# Altium footprint library WR-MM.PcbLib: 120 footprints (part 5 of 8)
Each footprint in its own frame and in the unit in brackets; x right, y up, seen from the top. Pads: shape width x height; smd on the part's side, far side on the other; paste and mask are expansions set on the pad; w line width, h text height; cw(c..) or ccw(c..) is an arc to the next point about the centre after c.
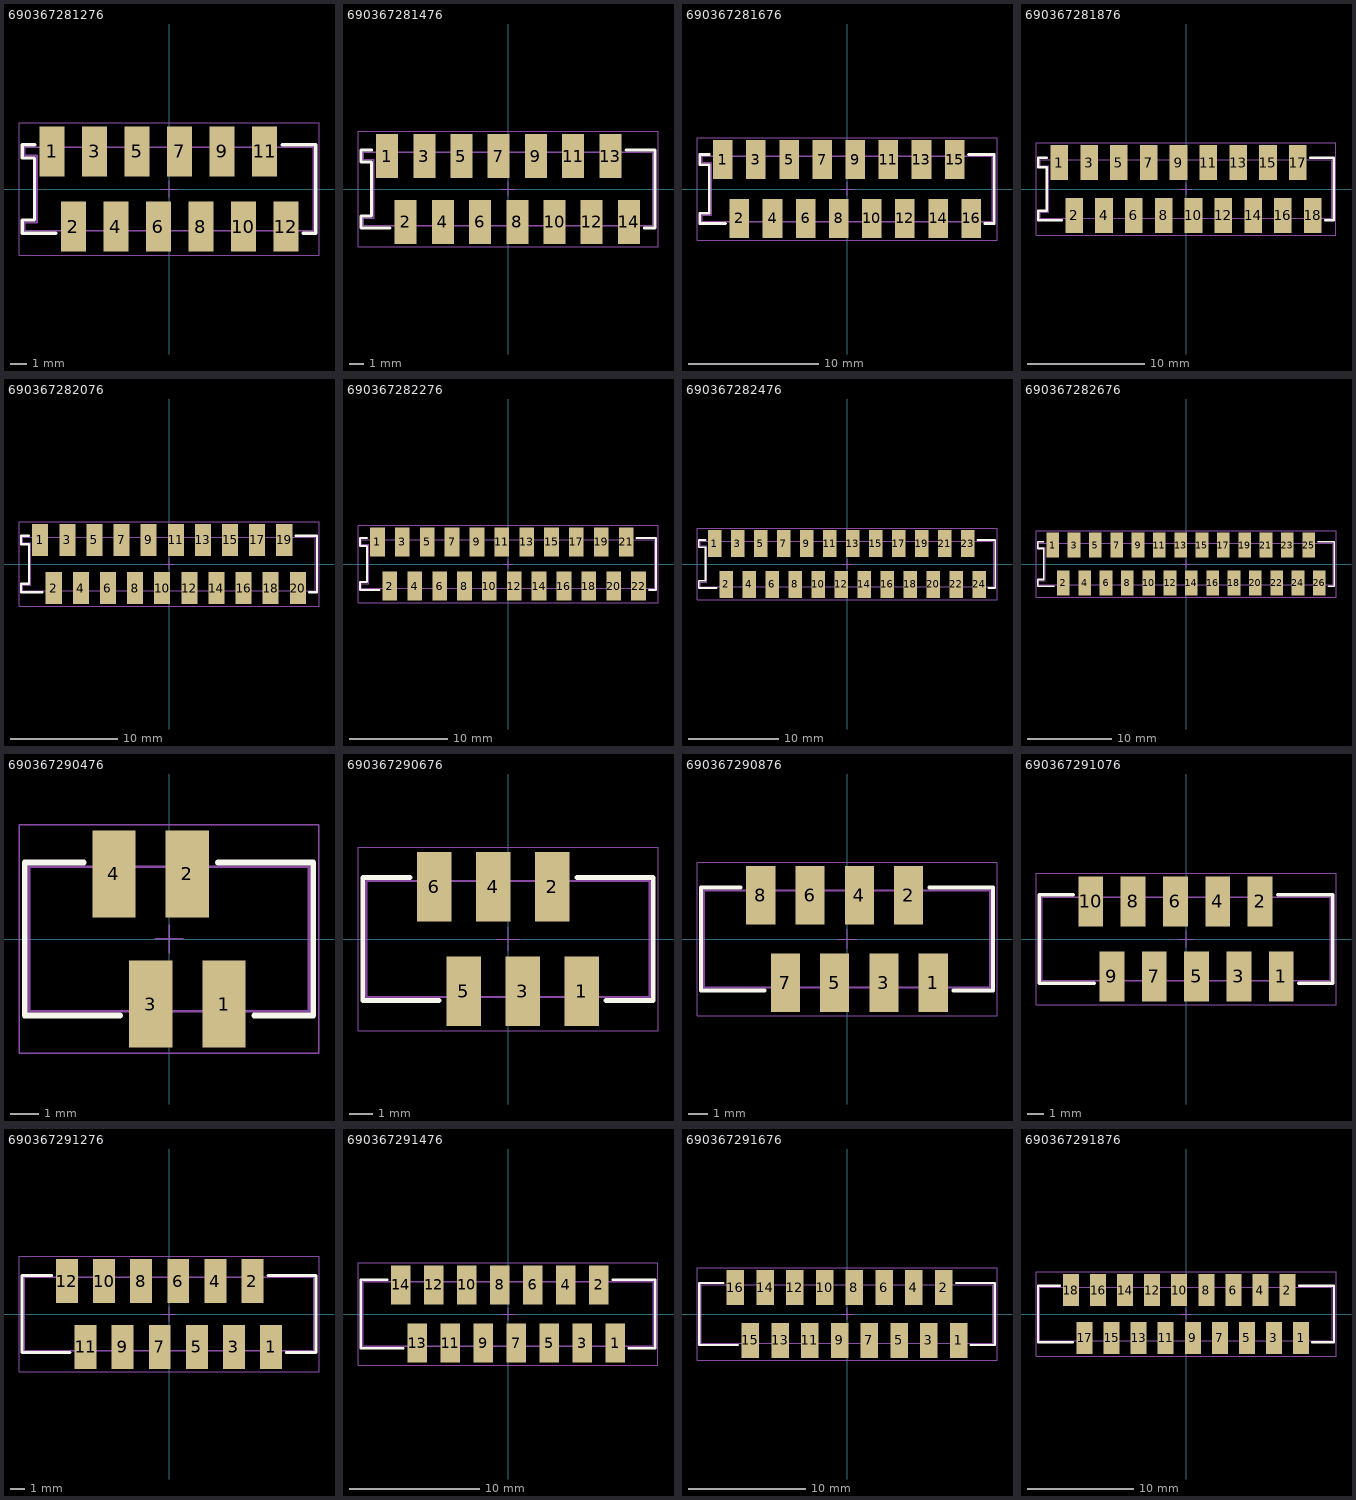
[diagram p4: the footprints below, top view; thin cyan lines are the x and y axes]

## 690367281276 [mm] "MiniModule Connectors, PCB Type, Female, SMT, Vertical, 12p"
height 5.45
pads (12):
  rect 1.5x3 smd: 1(-6.985,2.25) 2(-5.715,-2.25) 3(-4.445,2.25) 4(-3.175,-2.25) 5(-1.905,2.25) 6(-0.635,-2.25) 7(0.635,2.25) 8(1.905,-2.25) 9(3.175,2.25) 10(4.445,-2.25) 11(5.715,2.25) 12(6.985,-2.25)
Top Overlay:
  lines w0.2: -8.03,2.65 -8.77,2.65 -8.77,1.85 -8.04,1.85 -8.04,-1.85 -8.77,-1.85 -8.77,-2.65 -6.78,-2.65 ; 6.78,2.65 8.77,2.65 8.77,-2.65 8.03,-2.65
Top Designator:
  text ".Designator" at -7.498,-0.5 h1.5
Top Component Outline:
  lines w0.1: -7.11,2.5 -7.11,3.5 -6.86,3.5 -6.86,2.5 ; -5.84,-2.5 -5.84,-3.5 -5.59,-3.5 -5.59,-2.5 ; -4.57,2.5 -4.57,3.5 -4.32,3.5 -4.32,2.5 ; -3.3,-2.5 -3.3,-3.5 -3.05,-3.5 -3.05,-2.5 ; -2.03,2.5 -2.03,3.5 -1.78,3.5 -1.78,2.5 ; -0.76,-2.5 -0.76,-3.5 -0.51,-3.5 -0.51,-2.5 ; 0.51,2.5 0.51,3.5 0.76,3.5 0.76,2.5 ; 1.78,-2.5 1.78,-3.5 2.03,-3.5 2.03,-2.5 ; 3.05,2.5 3.05,3.5 3.3,3.5 3.3,2.5 ; 4.32,-2.5 4.32,-3.5 4.57,-3.5 4.57,-2.5 ; 5.59,2.5 5.59,3.5 5.84,3.5 5.84,2.5 ; 6.86,-2.5 6.86,-3.5 7.11,-3.5 7.11,-2.5 ; -8.62,-2.5 -8.62,-2 -7.89,-2 -7.89,2 -8.62,2 -8.62,2.5 8.62,2.5 8.62,-2.5 -8.62,-2.5
Top 3D Body:
  lines w0.1: -7.11,2.5 -7.11,3.5 -6.86,3.5 -6.86,2.5 ; -5.84,-2.5 -5.84,-3.5 -5.59,-3.5 -5.59,-2.5 ; -4.57,2.5 -4.57,3.5 -4.32,3.5 -4.32,2.5 ; -3.3,-2.5 -3.3,-3.5 -3.05,-3.5 -3.05,-2.5 ; -2.03,2.5 -2.03,3.5 -1.78,3.5 -1.78,2.5 ; -0.76,-2.5 -0.76,-3.5 -0.51,-3.5 -0.51,-2.5 ; 0.51,2.5 0.51,3.5 0.76,3.5 0.76,2.5 ; 1.78,-2.5 1.78,-3.5 2.03,-3.5 2.03,-2.5 ; 3.05,2.5 3.05,3.5 3.3,3.5 3.3,2.5 ; 4.32,-2.5 4.32,-3.5 4.57,-3.5 4.57,-2.5 ; 5.59,2.5 5.59,3.5 5.84,3.5 5.84,2.5 ; 6.86,-2.5 6.86,-3.5 7.11,-3.5 7.11,-2.5 ; -8.62,-2.5 8.62,-2.5 8.62,2.5 -8.62,2.5 -8.62,2 -7.89,2 -7.89,-2 -8.62,-2 -8.62,-2.5
Top Courtyard:
  lines w0.05: -0.5,0 0.5,0 ; 0,-0.5 0,0.5 ; -8.97,-3.95 -8.97,3.95 8.97,3.95 8.97,-3.95 -8.97,-3.95
3D body "690367281276.stp": height 5.8, standoff 0, extent -8.615,-3.498 8.625,3.499

## 690367281476 [mm] "MiniModule Connectors, PCB Type, Female, SMT, Vertical, 14p"
height 5.45
pads (14):
  rect 1.5x3 smd: 1(-8.255,2.25) 2(-6.985,-2.25) 3(-5.715,2.25) 4(-4.445,-2.25) 5(-3.175,2.25) 6(-1.905,-2.25) 7(-0.635,2.25) 8(0.635,-2.25) 9(1.905,2.25) 10(3.175,-2.25) 11(4.445,2.25) 12(5.715,-2.25) 13(6.985,2.25) 14(8.255,-2.25)
Top Overlay:
  lines w0.2: -9.3,2.65 -10.04,2.65 -10.04,1.85 -9.31,1.85 -9.31,-1.85 -10.04,-1.85 -10.04,-2.65 -8.05,-2.65 ; 8.05,2.65 10.04,2.65 10.04,-2.65 9.3,-2.65
Top Designator:
  text ".Designator" at -7.498,-0.5 h1.5
Top Component Outline:
  lines w0.1: -8.38,2.5 -8.38,3.5 -8.13,3.5 -8.13,2.5 ; -7.11,-2.5 -7.11,-3.5 -6.86,-3.5 -6.86,-2.5 ; -5.84,2.5 -5.84,3.5 -5.59,3.5 -5.59,2.5 ; -4.57,-2.5 -4.57,-3.5 -4.32,-3.5 -4.32,-2.5 ; -3.3,2.5 -3.3,3.5 -3.05,3.5 -3.05,2.5 ; -2.03,-2.5 -2.03,-3.5 -1.78,-3.5 -1.78,-2.5 ; -0.76,2.5 -0.76,3.5 -0.51,3.5 -0.51,2.5 ; 0.51,-2.5 0.51,-3.5 0.76,-3.5 0.76,-2.5 ; 1.78,2.5 1.78,3.5 2.03,3.5 2.03,2.5 ; 3.05,-2.5 3.05,-3.5 3.3,-3.5 3.3,-2.5 ; 4.32,2.5 4.32,3.5 4.57,3.5 4.57,2.5 ; 5.59,-2.5 5.59,-3.5 5.84,-3.5 5.84,-2.5 ; 6.86,2.5 6.86,3.5 7.11,3.5 7.11,2.5 ; 8.13,-2.5 8.13,-3.5 8.38,-3.5 8.38,-2.5 ; -9.89,-2.5 9.89,-2.5 9.89,2.5 -9.89,2.5 -9.89,2 -9.16,2 -9.16,-2 -9.89,-2 -9.89,-2.5
Top 3D Body:
  lines w0.1: -8.38,2.5 -8.38,3.5 -8.13,3.5 -8.13,2.5 ; -7.11,-2.5 -7.11,-3.5 -6.86,-3.5 -6.86,-2.5 ; -5.84,2.5 -5.84,3.5 -5.59,3.5 -5.59,2.5 ; -4.57,-2.5 -4.57,-3.5 -4.32,-3.5 -4.32,-2.5 ; -3.3,2.5 -3.3,3.5 -3.05,3.5 -3.05,2.5 ; -2.03,-2.5 -2.03,-3.5 -1.78,-3.5 -1.78,-2.5 ; -0.76,2.5 -0.76,3.5 -0.51,3.5 -0.51,2.5 ; 0.51,-2.5 0.51,-3.5 0.76,-3.5 0.76,-2.5 ; 1.78,2.5 1.78,3.5 2.03,3.5 2.03,2.5 ; 3.05,-2.5 3.05,-3.5 3.3,-3.5 3.3,-2.5 ; 4.32,2.5 4.32,3.5 4.57,3.5 4.57,2.5 ; 5.59,-2.5 5.59,-3.5 5.84,-3.5 5.84,-2.5 ; 6.86,2.5 6.86,3.5 7.11,3.5 7.11,2.5 ; 8.13,-2.5 8.13,-3.5 8.38,-3.5 8.38,-2.5 ; -9.89,-2.5 -9.89,-2 -9.16,-2 -9.16,2 -9.89,2 -9.89,2.5 9.89,2.5 9.89,-2.5 -9.89,-2.5
Top Courtyard:
  lines w0.05: -0.5,0 0.5,0 ; 0,-0.5 0,0.5 ; -10.24,-3.95 10.24,-3.95 10.24,3.95 -10.24,3.95 -10.24,-3.95
3D body "690367281476.stp": height 5.8, standoff 0.05, extent -9.885,-3.498 9.895,3.499

## 690367281676 [mm] "MiniModule Connectors, PCB Type, Female, SMT, Vertical, 16p"
height 5.45
pads (16):
  rect 1.5x3 smd: 1(-9.525,2.25) 2(-8.255,-2.25) 3(-6.985,2.25) 4(-5.715,-2.25) 5(-4.445,2.25) 6(-3.175,-2.25) 7(-1.905,2.25) 8(-0.635,-2.25) 9(0.635,2.25) 10(1.905,-2.25) 11(3.175,2.25) 12(4.445,-2.25) 13(5.715,2.25) 14(6.985,-2.25) 15(8.255,2.25) 16(9.525,-2.25)
Top Overlay:
  lines w0.2: -10.57,2.65 -11.31,2.65 -11.31,1.85 -10.58,1.85 -10.58,-1.85 -11.31,-1.85 -11.31,-2.65 -9.32,-2.65 ; 9.32,2.65 11.31,2.65 11.31,-2.65 10.57,-2.65
Top Designator:
  text ".Designator" at -7.498,-0.5 h1.5
Top Component Outline:
  lines w0.1: -9.65,2.5 -9.65,3.5 -9.4,3.5 -9.4,2.5 ; -8.38,-2.5 -8.38,-3.5 -8.13,-3.5 -8.13,-2.5 ; -7.11,2.5 -7.11,3.5 -6.86,3.5 -6.86,2.5 ; -5.84,-2.5 -5.84,-3.5 -5.59,-3.5 -5.59,-2.5 ; -4.57,2.5 -4.57,3.5 -4.32,3.5 -4.32,2.5 ; -3.3,-2.5 -3.3,-3.5 -3.05,-3.5 -3.05,-2.5 ; -2.03,2.5 -2.03,3.5 -1.78,3.5 -1.78,2.5 ; -0.76,-2.5 -0.76,-3.5 -0.51,-3.5 -0.51,-2.5 ; 0.51,2.5 0.51,3.5 0.76,3.5 0.76,2.5 ; 1.78,-2.5 1.78,-3.5 2.03,-3.5 2.03,-2.5 ; 3.05,2.5 3.05,3.5 3.3,3.5 3.3,2.5 ; 4.32,-2.5 4.32,-3.5 4.57,-3.5 4.57,-2.5 ; 5.59,2.5 5.59,3.5 5.84,3.5 5.84,2.5 ; 6.86,-2.5 6.86,-3.5 7.11,-3.5 7.11,-2.5 ; 8.13,2.5 8.13,3.5 8.38,3.5 8.38,2.5 ; 9.4,-2.5 9.4,-3.5 9.65,-3.5 9.65,-2.5 ; -11.16,-2.5 -11.16,-2 -10.43,-2 -10.43,2 -11.16,2 -11.16,2.5 11.16,2.5 11.16,-2.5 -11.16,-2.5
Top 3D Body:
  lines w0.1: -9.65,2.5 -9.65,3.5 -9.4,3.5 -9.4,2.5 ; -8.38,-2.5 -8.38,-3.5 -8.13,-3.5 -8.13,-2.5 ; -7.11,2.5 -7.11,3.5 -6.86,3.5 -6.86,2.5 ; -5.84,-2.5 -5.84,-3.5 -5.59,-3.5 -5.59,-2.5 ; -4.57,2.5 -4.57,3.5 -4.32,3.5 -4.32,2.5 ; -3.3,-2.5 -3.3,-3.5 -3.05,-3.5 -3.05,-2.5 ; -2.03,2.5 -2.03,3.5 -1.78,3.5 -1.78,2.5 ; -0.76,-2.5 -0.76,-3.5 -0.51,-3.5 -0.51,-2.5 ; 0.51,2.5 0.51,3.5 0.76,3.5 0.76,2.5 ; 1.78,-2.5 1.78,-3.5 2.03,-3.5 2.03,-2.5 ; 3.05,2.5 3.05,3.5 3.3,3.5 3.3,2.5 ; 4.32,-2.5 4.32,-3.5 4.57,-3.5 4.57,-2.5 ; 5.59,2.5 5.59,3.5 5.84,3.5 5.84,2.5 ; 6.86,-2.5 6.86,-3.5 7.11,-3.5 7.11,-2.5 ; 8.13,2.5 8.13,3.5 8.38,3.5 8.38,2.5 ; 9.4,-2.5 9.4,-3.5 9.65,-3.5 9.65,-2.5 ; -11.16,-2.5 11.16,-2.5 11.16,2.5 -11.16,2.5 -11.16,2 -10.43,2 -10.43,-2 -11.16,-2 -11.16,-2.5
Top Courtyard:
  lines w0.05: -0.5,0 0.5,0 ; 0,-0.5 0,0.5 ; -11.51,-3.95 -11.51,3.95 11.51,3.95 11.51,-3.95 -11.51,-3.95
3D body "690367281676.stp": height 5.8, standoff 0, extent -11.155,-3.498 11.165,3.499

## 690367281876 [mm] "MiniModule Connectors, PCB Type, Female, SMT, Vertical, 18p"
height 5.45
pads (18):
  rect 1.5x3 smd: 1(-10.795,2.25) 2(-9.525,-2.25) 3(-8.255,2.25) 4(-6.985,-2.25) 5(-5.715,2.25) 6(-4.445,-2.25) 7(-3.175,2.25) 8(-1.905,-2.25) 9(-0.635,2.25) 10(0.635,-2.25) 11(1.905,2.25) 12(3.175,-2.25) 13(4.445,2.25) 14(5.715,-2.25) 15(6.985,2.25) 16(8.255,-2.25) 17(9.525,2.25) 18(10.795,-2.25)
Top Overlay:
  lines w0.2: -11.84,2.65 -12.58,2.65 -12.58,1.85 -11.85,1.85 -11.85,-1.85 -12.58,-1.85 -12.58,-2.65 -10.59,-2.65 ; 10.59,2.65 12.58,2.65 12.58,-2.65 11.84,-2.65
Top Designator:
  text ".Designator" at -7.498,-0.5 h1.5
Top Component Outline:
  lines w0.1: -10.92,2.5 -10.92,3.5 -10.67,3.5 -10.67,2.5 ; -9.65,-2.5 -9.65,-3.5 -9.4,-3.5 -9.4,-2.5 ; -8.38,2.5 -8.38,3.5 -8.13,3.5 -8.13,2.5 ; -7.11,-2.5 -7.11,-3.5 -6.86,-3.5 -6.86,-2.5 ; -5.84,2.5 -5.84,3.5 -5.59,3.5 -5.59,2.5 ; -4.57,-2.5 -4.57,-3.5 -4.32,-3.5 -4.32,-2.5 ; -3.3,2.5 -3.3,3.5 -3.05,3.5 -3.05,2.5 ; -2.03,-2.5 -2.03,-3.5 -1.78,-3.5 -1.78,-2.5 ; -0.76,2.5 -0.76,3.5 -0.51,3.5 -0.51,2.5 ; 0.51,-2.5 0.51,-3.5 0.76,-3.5 0.76,-2.5 ; 1.78,2.5 1.78,3.5 2.03,3.5 2.03,2.5 ; 3.05,-2.5 3.05,-3.5 3.3,-3.5 3.3,-2.5 ; 4.32,2.5 4.32,3.5 4.57,3.5 4.57,2.5 ; 5.59,-2.5 5.59,-3.5 5.84,-3.5 5.84,-2.5 ; 6.86,2.5 6.86,3.5 7.11,3.5 7.11,2.5 ; 8.13,-2.5 8.13,-3.5 8.38,-3.5 8.38,-2.5 ; 9.4,2.5 9.4,3.5 9.65,3.5 9.65,2.5 ; 10.67,-2.5 10.67,-3.5 10.92,-3.5 10.92,-2.5 ; -12.43,-2.5 12.43,-2.5 12.43,2.5 -12.43,2.5 -12.43,2 -11.7,2 -11.7,-2 -12.43,-2 -12.43,-2.5
Top 3D Body:
  lines w0.1: -10.92,2.5 -10.92,3.5 -10.67,3.5 -10.67,2.5 ; -9.65,-2.5 -9.65,-3.5 -9.4,-3.5 -9.4,-2.5 ; -8.38,2.5 -8.38,3.5 -8.13,3.5 -8.13,2.5 ; -7.11,-2.5 -7.11,-3.5 -6.86,-3.5 -6.86,-2.5 ; -5.84,2.5 -5.84,3.5 -5.59,3.5 -5.59,2.5 ; -4.57,-2.5 -4.57,-3.5 -4.32,-3.5 -4.32,-2.5 ; -3.3,2.5 -3.3,3.5 -3.05,3.5 -3.05,2.5 ; -2.03,-2.5 -2.03,-3.5 -1.78,-3.5 -1.78,-2.5 ; -0.76,2.5 -0.76,3.5 -0.51,3.5 -0.51,2.5 ; 0.51,-2.5 0.51,-3.5 0.76,-3.5 0.76,-2.5 ; 1.78,2.5 1.78,3.5 2.03,3.5 2.03,2.5 ; 3.05,-2.5 3.05,-3.5 3.3,-3.5 3.3,-2.5 ; 4.32,2.5 4.32,3.5 4.57,3.5 4.57,2.5 ; 5.59,-2.5 5.59,-3.5 5.84,-3.5 5.84,-2.5 ; 6.86,2.5 6.86,3.5 7.11,3.5 7.11,2.5 ; 8.13,-2.5 8.13,-3.5 8.38,-3.5 8.38,-2.5 ; 9.4,2.5 9.4,3.5 9.65,3.5 9.65,2.5 ; 10.67,-2.5 10.67,-3.5 10.92,-3.5 10.92,-2.5 ; -12.43,-2.5 -12.43,-2 -11.7,-2 -11.7,2 -12.43,2 -12.43,2.5 12.43,2.5 12.43,-2.5 -12.43,-2.5
Top Courtyard:
  lines w0.05: -0.5,0 0.5,0 ; 0,-0.5 0,0.5 ; -12.78,-3.95 12.78,-3.95 12.78,3.95 -12.78,3.95 -12.78,-3.95
3D body "690367281876.stp": height 5.8, standoff 0.05, extent -12.425,-3.498 12.435,3.499

## 690367282076 [mm] "MiniModule Connectors, PCB Type, Female, SMT, Vertical, 20p"
height 5.45
pads (20):
  rect 1.5x3 smd: 1(-12.065,2.25) 2(-10.795,-2.25) 3(-9.525,2.25) 4(-8.255,-2.25) 5(-6.985,2.25) 6(-5.715,-2.25) 7(-4.445,2.25) 8(-3.175,-2.25) 9(-1.905,2.25) 10(-0.635,-2.25) 11(0.635,2.25) 12(1.905,-2.25) 13(3.175,2.25) 14(4.445,-2.25) 15(5.715,2.25) 16(6.985,-2.25) 17(8.255,2.25) 18(9.525,-2.25) 19(10.795,2.25) 20(12.065,-2.25)
Top Overlay:
  lines w0.2: -13.11,2.65 -13.85,2.65 -13.85,1.85 -13.12,1.85 -13.12,-1.85 -13.85,-1.85 -13.85,-2.65 -11.86,-2.65 ; 11.86,2.65 13.85,2.65 13.85,-2.65 13.11,-2.65
Top Designator:
  text ".Designator" at -7.498,-0.5 h1.5
Top Component Outline:
  lines w0.1: -12.19,2.5 -12.19,3.5 -11.94,3.5 -11.94,2.5 ; -10.92,-2.5 -10.92,-3.5 -10.67,-3.5 -10.67,-2.5 ; -9.65,2.5 -9.65,3.5 -9.4,3.5 -9.4,2.5 ; -8.38,-2.5 -8.38,-3.5 -8.13,-3.5 -8.13,-2.5 ; -7.11,2.5 -7.11,3.5 -6.86,3.5 -6.86,2.5 ; -5.84,-2.5 -5.84,-3.5 -5.59,-3.5 -5.59,-2.5 ; -4.57,2.5 -4.57,3.5 -4.32,3.5 -4.32,2.5 ; -3.3,-2.5 -3.3,-3.5 -3.05,-3.5 -3.05,-2.5 ; -2.03,2.5 -2.03,3.5 -1.78,3.5 -1.78,2.5 ; -0.76,-2.5 -0.76,-3.5 -0.51,-3.5 -0.51,-2.5 ; 0.51,2.5 0.51,3.5 0.76,3.5 0.76,2.5 ; 1.78,-2.5 1.78,-3.5 2.03,-3.5 2.03,-2.5 ; 3.05,2.5 3.05,3.5 3.3,3.5 3.3,2.5 ; 4.32,-2.5 4.32,-3.5 4.57,-3.5 4.57,-2.5 ; 5.59,2.5 5.59,3.5 5.84,3.5 5.84,2.5 ; 6.86,-2.5 6.86,-3.5 7.11,-3.5 7.11,-2.5 ; 8.13,2.5 8.13,3.5 8.38,3.5 8.38,2.5 ; 9.4,-2.5 9.4,-3.5 9.65,-3.5 9.65,-2.5 ; 10.67,2.5 10.67,3.5 10.92,3.5 10.92,2.5 ; 11.94,-2.5 11.94,-3.5 12.19,-3.5 12.19,-2.5 ; -13.7,-2.5 -13.7,-2 -12.97,-2 -12.97,2 -13.7,2 -13.7,2.5 13.7,2.5 13.7,-2.5 -13.7,-2.5
Top 3D Body:
  lines w0.1: -12.19,2.5 -12.19,3.5 -11.94,3.5 -11.94,2.5 ; -10.92,-2.5 -10.92,-3.5 -10.67,-3.5 -10.67,-2.5 ; -9.65,2.5 -9.65,3.5 -9.4,3.5 -9.4,2.5 ; -8.38,-2.5 -8.38,-3.5 -8.13,-3.5 -8.13,-2.5 ; -7.11,2.5 -7.11,3.5 -6.86,3.5 -6.86,2.5 ; -5.84,-2.5 -5.84,-3.5 -5.59,-3.5 -5.59,-2.5 ; -4.57,2.5 -4.57,3.5 -4.32,3.5 -4.32,2.5 ; -3.3,-2.5 -3.3,-3.5 -3.05,-3.5 -3.05,-2.5 ; -2.03,2.5 -2.03,3.5 -1.78,3.5 -1.78,2.5 ; -0.76,-2.5 -0.76,-3.5 -0.51,-3.5 -0.51,-2.5 ; 0.51,2.5 0.51,3.5 0.76,3.5 0.76,2.5 ; 1.78,-2.5 1.78,-3.5 2.03,-3.5 2.03,-2.5 ; 3.05,2.5 3.05,3.5 3.3,3.5 3.3,2.5 ; 4.32,-2.5 4.32,-3.5 4.57,-3.5 4.57,-2.5 ; 5.59,2.5 5.59,3.5 5.84,3.5 5.84,2.5 ; 6.86,-2.5 6.86,-3.5 7.11,-3.5 7.11,-2.5 ; 8.13,2.5 8.13,3.5 8.38,3.5 8.38,2.5 ; 9.4,-2.5 9.4,-3.5 9.65,-3.5 9.65,-2.5 ; 10.67,2.5 10.67,3.5 10.92,3.5 10.92,2.5 ; 11.94,-2.5 11.94,-3.5 12.19,-3.5 12.19,-2.5 ; -13.7,-2.5 13.7,-2.5 13.7,2.5 -13.7,2.5 -13.7,2 -12.97,2 -12.97,-2 -13.7,-2 -13.7,-2.5
Top Courtyard:
  lines w0.05: -0.5,0 0.5,0 ; 0,-0.5 0,0.5 ; -14.05,-3.95 -14.05,3.95 14.05,3.95 14.05,-3.95 -14.05,-3.95
3D body "690367282076.stp": height 5.8, standoff 0.05, extent -13.695,-3.498 13.705,3.499

## 690367282276 [mm] "MiniModule Connectors, PCB Type, Female, SMT, Vertical, 22p"
height 5.45
pads (22):
  rect 1.5x3 smd: 1(-13.335,2.25) 2(-12.065,-2.25) 3(-10.795,2.25) 4(-9.525,-2.25) 5(-8.255,2.25) 6(-6.985,-2.25) 7(-5.715,2.25) 8(-4.445,-2.25) 9(-3.175,2.25) 10(-1.905,-2.25) 11(-0.635,2.25) 12(0.635,-2.25) 13(1.905,2.25) 14(3.175,-2.25) 15(4.445,2.25) 16(5.715,-2.25) 17(6.985,2.25) 18(8.255,-2.25) 19(9.525,2.25) 20(10.795,-2.25) 21(12.065,2.25) 22(13.335,-2.25)
Top Overlay:
  lines w0.2: -14.38,2.65 -15.12,2.65 -15.12,1.85 -14.39,1.85 -14.39,-1.85 -15.12,-1.85 -15.12,-2.65 -13.13,-2.65 ; 13.13,2.65 15.12,2.65 15.12,-2.65 14.38,-2.65
Top Designator:
  text ".Designator" at -7.498,-0.5 h1.5
Top Component Outline:
  lines w0.1: -13.46,2.5 -13.46,3.5 -13.21,3.5 -13.21,2.5 ; -12.19,-2.5 -12.19,-3.5 -11.94,-3.5 -11.94,-2.5 ; -10.92,2.5 -10.92,3.5 -10.67,3.5 -10.67,2.5 ; -9.65,-2.5 -9.65,-3.5 -9.4,-3.5 -9.4,-2.5 ; -8.38,2.5 -8.38,3.5 -8.13,3.5 -8.13,2.5 ; -7.11,-2.5 -7.11,-3.5 -6.86,-3.5 -6.86,-2.5 ; -5.84,2.5 -5.84,3.5 -5.59,3.5 -5.59,2.5 ; -4.57,-2.5 -4.57,-3.5 -4.32,-3.5 -4.32,-2.5 ; -3.3,2.5 -3.3,3.5 -3.05,3.5 -3.05,2.5 ; -2.03,-2.5 -2.03,-3.5 -1.78,-3.5 -1.78,-2.5 ; -0.76,2.5 -0.76,3.5 -0.51,3.5 -0.51,2.5 ; 0.51,-2.5 0.51,-3.5 0.76,-3.5 0.76,-2.5 ; 1.78,2.5 1.78,3.5 2.03,3.5 2.03,2.5 ; 3.05,-2.5 3.05,-3.5 3.3,-3.5 3.3,-2.5 ; 4.32,2.5 4.32,3.5 4.57,3.5 4.57,2.5 ; 5.59,-2.5 5.59,-3.5 5.84,-3.5 5.84,-2.5 ; 6.86,2.5 6.86,3.5 7.11,3.5 7.11,2.5 ; 8.13,-2.5 8.13,-3.5 8.38,-3.5 8.38,-2.5 ; 9.4,2.5 9.4,3.5 9.65,3.5 9.65,2.5 ; 10.67,-2.5 10.67,-3.5 10.92,-3.5 10.92,-2.5 ; 11.94,2.5 11.94,3.5 12.19,3.5 12.19,2.5 ; 13.21,-2.5 13.21,-3.5 13.46,-3.5 13.46,-2.5 ; -14.97,-2.5 14.97,-2.5 14.97,2.5 -14.97,2.5 -14.97,2 -14.24,2 -14.24,-2 -14.97,-2 -14.97,-2.5
Top 3D Body:
  lines w0.1: -13.46,2.5 -13.46,3.5 -13.21,3.5 -13.21,2.5 ; -12.19,-2.5 -12.19,-3.5 -11.94,-3.5 -11.94,-2.5 ; -10.92,2.5 -10.92,3.5 -10.67,3.5 -10.67,2.5 ; -9.65,-2.5 -9.65,-3.5 -9.4,-3.5 -9.4,-2.5 ; -8.38,2.5 -8.38,3.5 -8.13,3.5 -8.13,2.5 ; -7.11,-2.5 -7.11,-3.5 -6.86,-3.5 -6.86,-2.5 ; -5.84,2.5 -5.84,3.5 -5.59,3.5 -5.59,2.5 ; -4.57,-2.5 -4.57,-3.5 -4.32,-3.5 -4.32,-2.5 ; -3.3,2.5 -3.3,3.5 -3.05,3.5 -3.05,2.5 ; -2.03,-2.5 -2.03,-3.5 -1.78,-3.5 -1.78,-2.5 ; -0.76,2.5 -0.76,3.5 -0.51,3.5 -0.51,2.5 ; 0.51,-2.5 0.51,-3.5 0.76,-3.5 0.76,-2.5 ; 1.78,2.5 1.78,3.5 2.03,3.5 2.03,2.5 ; 3.05,-2.5 3.05,-3.5 3.3,-3.5 3.3,-2.5 ; 4.32,2.5 4.32,3.5 4.57,3.5 4.57,2.5 ; 5.59,-2.5 5.59,-3.5 5.84,-3.5 5.84,-2.5 ; 6.86,2.5 6.86,3.5 7.11,3.5 7.11,2.5 ; 8.13,-2.5 8.13,-3.5 8.38,-3.5 8.38,-2.5 ; 9.4,2.5 9.4,3.5 9.65,3.5 9.65,2.5 ; 10.67,-2.5 10.67,-3.5 10.92,-3.5 10.92,-2.5 ; 11.94,2.5 11.94,3.5 12.19,3.5 12.19,2.5 ; 13.21,-2.5 13.21,-3.5 13.46,-3.5 13.46,-2.5 ; -14.97,-2.5 -14.97,-2 -14.24,-2 -14.24,2 -14.97,2 -14.97,2.5 14.97,2.5 14.97,-2.5 -14.97,-2.5
Top Courtyard:
  lines w0.05: -0.5,0 0.5,0 ; 0,-0.5 0,0.5 ; -15.32,-3.95 15.32,-3.95 15.32,3.95 -15.32,3.95 -15.32,-3.95
3D body "690367282276.stp": height 5.8, standoff -0.05, extent -14.965,-3.498 14.975,3.499

## 690367282476 [mm] "MiniModule Connectors, PCB Type, Female, SMT, Vertical, 24p"
height 5.45
pads (24):
  rect 1.5x3 smd: 1(-14.605,2.25) 2(-13.335,-2.25) 3(-12.065,2.25) 4(-10.795,-2.25) 5(-9.525,2.25) 6(-8.255,-2.25) 7(-6.985,2.25) 8(-5.715,-2.25) 9(-4.445,2.25) 10(-3.175,-2.25) 11(-1.905,2.25) 12(-0.635,-2.25) 13(0.635,2.25) 14(1.905,-2.25) 15(3.175,2.25) 16(4.445,-2.25) 17(5.715,2.25) 18(6.985,-2.25) 19(8.255,2.25) 20(9.525,-2.25) 21(10.795,2.25) 22(12.065,-2.25) 23(13.335,2.25) 24(14.605,-2.25)
Top Overlay:
  lines w0.2: -15.65,2.65 -16.39,2.65 -16.39,1.85 -15.66,1.85 -15.66,-1.85 -16.39,-1.85 -16.39,-2.65 -14.4,-2.65 ; 14.4,2.65 16.39,2.65 16.39,-2.65 15.65,-2.65
Top Designator:
  text ".Designator" at -7.498,-0.5 h1.5
Top Component Outline:
  lines w0.1: -14.73,2.5 -14.73,3.5 -14.48,3.5 -14.48,2.5 ; -13.46,-2.5 -13.46,-3.5 -13.21,-3.5 -13.21,-2.5 ; -12.19,2.5 -12.19,3.5 -11.94,3.5 -11.94,2.5 ; -10.92,-2.5 -10.92,-3.5 -10.67,-3.5 -10.67,-2.5 ; -9.65,2.5 -9.65,3.5 -9.4,3.5 -9.4,2.5 ; -8.38,-2.5 -8.38,-3.5 -8.13,-3.5 -8.13,-2.5 ; -7.11,2.5 -7.11,3.5 -6.86,3.5 -6.86,2.5 ; -5.84,-2.5 -5.84,-3.5 -5.59,-3.5 -5.59,-2.5 ; -4.57,2.5 -4.57,3.5 -4.32,3.5 -4.32,2.5 ; -3.3,-2.5 -3.3,-3.5 -3.05,-3.5 -3.05,-2.5 ; -2.03,2.5 -2.03,3.5 -1.78,3.5 -1.78,2.5 ; -0.76,-2.5 -0.76,-3.5 -0.51,-3.5 -0.51,-2.5 ; 0.51,2.5 0.51,3.5 0.76,3.5 0.76,2.5 ; 1.78,-2.5 1.78,-3.5 2.03,-3.5 2.03,-2.5 ; 3.05,2.5 3.05,3.5 3.3,3.5 3.3,2.5 ; 4.32,-2.5 4.32,-3.5 4.57,-3.5 4.57,-2.5 ; 5.59,2.5 5.59,3.5 5.84,3.5 5.84,2.5 ; 6.86,-2.5 6.86,-3.5 7.11,-3.5 7.11,-2.5 ; 8.13,2.5 8.13,3.5 8.38,3.5 8.38,2.5 ; 9.4,-2.5 9.4,-3.5 9.65,-3.5 9.65,-2.5 ; 10.67,2.5 10.67,3.5 10.92,3.5 10.92,2.5 ; 11.94,-2.5 11.94,-3.5 12.19,-3.5 12.19,-2.5 ; 13.21,2.5 13.21,3.5 13.46,3.5 13.46,2.5 ; 14.48,-2.5 14.48,-3.5 14.73,-3.5 14.73,-2.5 ; -16.24,-2.5 -16.24,-2 -15.51,-2 -15.51,2 -16.24,2 -16.24,2.5 16.24,2.5 16.24,-2.5 -16.24,-2.5
Top 3D Body:
  lines w0.1: -14.73,2.5 -14.73,3.5 -14.48,3.5 -14.48,2.5 ; -13.46,-2.5 -13.46,-3.5 -13.21,-3.5 -13.21,-2.5 ; -12.19,2.5 -12.19,3.5 -11.94,3.5 -11.94,2.5 ; -10.92,-2.5 -10.92,-3.5 -10.67,-3.5 -10.67,-2.5 ; -9.65,2.5 -9.65,3.5 -9.4,3.5 -9.4,2.5 ; -8.38,-2.5 -8.38,-3.5 -8.13,-3.5 -8.13,-2.5 ; -7.11,2.5 -7.11,3.5 -6.86,3.5 -6.86,2.5 ; -5.84,-2.5 -5.84,-3.5 -5.59,-3.5 -5.59,-2.5 ; -4.57,2.5 -4.57,3.5 -4.32,3.5 -4.32,2.5 ; -3.3,-2.5 -3.3,-3.5 -3.05,-3.5 -3.05,-2.5 ; -2.03,2.5 -2.03,3.5 -1.78,3.5 -1.78,2.5 ; -0.76,-2.5 -0.76,-3.5 -0.51,-3.5 -0.51,-2.5 ; 0.51,2.5 0.51,3.5 0.76,3.5 0.76,2.5 ; 1.78,-2.5 1.78,-3.5 2.03,-3.5 2.03,-2.5 ; 3.05,2.5 3.05,3.5 3.3,3.5 3.3,2.5 ; 4.32,-2.5 4.32,-3.5 4.57,-3.5 4.57,-2.5 ; 5.59,2.5 5.59,3.5 5.84,3.5 5.84,2.5 ; 6.86,-2.5 6.86,-3.5 7.11,-3.5 7.11,-2.5 ; 8.13,2.5 8.13,3.5 8.38,3.5 8.38,2.5 ; 9.4,-2.5 9.4,-3.5 9.65,-3.5 9.65,-2.5 ; 10.67,2.5 10.67,3.5 10.92,3.5 10.92,2.5 ; 11.94,-2.5 11.94,-3.5 12.19,-3.5 12.19,-2.5 ; 13.21,2.5 13.21,3.5 13.46,3.5 13.46,2.5 ; 14.48,-2.5 14.48,-3.5 14.73,-3.5 14.73,-2.5 ; -16.24,-2.5 16.24,-2.5 16.24,2.5 -16.24,2.5 -16.24,2 -15.51,2 -15.51,-2 -16.24,-2 -16.24,-2.5
Top Courtyard:
  lines w0.05: -0.5,0 0.5,0 ; 0,-0.5 0,0.5 ; -16.59,-3.95 -16.59,3.95 16.59,3.95 16.59,-3.95 -16.59,-3.95
3D body "690367282476.stp": height 5.8, standoff -0.05, extent -16.235,-3.498 16.245,3.499

## 690367282676 [mm] "MiniModule Connectors, PCB Type, Female, SMT, Vertical, 26p"
height 5.45
pads (26):
  rect 1.5x3 smd: 1(-15.875,2.25) 2(-14.605,-2.25) 3(-13.335,2.25) 4(-12.065,-2.25) 5(-10.795,2.25) 6(-9.525,-2.25) 7(-8.255,2.25) 8(-6.985,-2.25) 9(-5.715,2.25) 10(-4.445,-2.25) 11(-3.175,2.25) 12(-1.905,-2.25) 13(-0.635,2.25) 14(0.635,-2.25) 15(1.905,2.25) 16(3.175,-2.25) 17(4.445,2.25) 18(5.715,-2.25) 19(6.985,2.25) 20(8.255,-2.25) 21(9.525,2.25) 22(10.795,-2.25) 23(12.065,2.25) 24(13.335,-2.25) 25(14.605,2.25) 26(15.875,-2.25)
Top Overlay:
  lines w0.2: -16.92,2.65 -17.66,2.65 -17.66,1.85 -16.93,1.85 -16.93,-1.85 -17.66,-1.85 -17.66,-2.65 -15.67,-2.65 ; 15.67,2.65 17.66,2.65 17.66,-2.65 16.92,-2.65
Top Designator:
  text ".Designator" at -7.498,-0.5 h1.5
Top Component Outline:
  lines w0.1: -16,2.5 -16,3.5 -15.75,3.5 -15.75,2.5 ; -14.73,-2.5 -14.73,-3.5 -14.48,-3.5 -14.48,-2.5 ; -13.46,2.5 -13.46,3.5 -13.21,3.5 -13.21,2.5 ; -12.19,-2.5 -12.19,-3.5 -11.94,-3.5 -11.94,-2.5 ; -10.92,2.5 -10.92,3.5 -10.67,3.5 -10.67,2.5 ; -9.65,-2.5 -9.65,-3.5 -9.4,-3.5 -9.4,-2.5 ; -8.38,2.5 -8.38,3.5 -8.13,3.5 -8.13,2.5 ; -7.11,-2.5 -7.11,-3.5 -6.86,-3.5 -6.86,-2.5 ; -5.84,2.5 -5.84,3.5 -5.59,3.5 -5.59,2.5 ; -4.57,-2.5 -4.57,-3.5 -4.32,-3.5 -4.32,-2.5 ; -3.3,2.5 -3.3,3.5 -3.05,3.5 -3.05,2.5 ; -2.03,-2.5 -2.03,-3.5 -1.78,-3.5 -1.78,-2.5 ; -0.76,2.5 -0.76,3.5 -0.51,3.5 -0.51,2.5 ; 0.51,-2.5 0.51,-3.5 0.76,-3.5 0.76,-2.5 ; 1.78,2.5 1.78,3.5 2.03,3.5 2.03,2.5 ; 3.05,-2.5 3.05,-3.5 3.3,-3.5 3.3,-2.5 ; 4.32,2.5 4.32,3.5 4.57,3.5 4.57,2.5 ; 5.59,-2.5 5.59,-3.5 5.84,-3.5 5.84,-2.5 ; 6.86,2.5 6.86,3.5 7.11,3.5 7.11,2.5 ; 8.13,-2.5 8.13,-3.5 8.38,-3.5 8.38,-2.5 ; 9.4,2.5 9.4,3.5 9.65,3.5 9.65,2.5 ; 10.67,-2.5 10.67,-3.5 10.92,-3.5 10.92,-2.5 ; 11.94,2.5 11.94,3.5 12.19,3.5 12.19,2.5 ; 13.21,-2.5 13.21,-3.5 13.46,-3.5 13.46,-2.5 ; 14.48,2.5 14.48,3.5 14.73,3.5 14.73,2.5 ; 15.75,-2.5 15.75,-3.5 16,-3.5 16,-2.5 ; -17.51,-2.5 17.51,-2.5 17.51,2.5 -17.51,2.5 -17.51,2 -16.78,2 -16.78,-2 -17.51,-2 -17.51,-2.5
Top 3D Body:
  lines w0.1: -16,2.5 -16,3.5 -15.75,3.5 -15.75,2.5 ; -14.73,-2.5 -14.73,-3.5 -14.48,-3.5 -14.48,-2.5 ; -13.46,2.5 -13.46,3.5 -13.21,3.5 -13.21,2.5 ; -12.19,-2.5 -12.19,-3.5 -11.94,-3.5 -11.94,-2.5 ; -10.92,2.5 -10.92,3.5 -10.67,3.5 -10.67,2.5 ; -9.65,-2.5 -9.65,-3.5 -9.4,-3.5 -9.4,-2.5 ; -8.38,2.5 -8.38,3.5 -8.13,3.5 -8.13,2.5 ; -7.11,-2.5 -7.11,-3.5 -6.86,-3.5 -6.86,-2.5 ; -5.84,2.5 -5.84,3.5 -5.59,3.5 -5.59,2.5 ; -4.57,-2.5 -4.57,-3.5 -4.32,-3.5 -4.32,-2.5 ; -3.3,2.5 -3.3,3.5 -3.05,3.5 -3.05,2.5 ; -2.03,-2.5 -2.03,-3.5 -1.78,-3.5 -1.78,-2.5 ; -0.76,2.5 -0.76,3.5 -0.51,3.5 -0.51,2.5 ; 0.51,-2.5 0.51,-3.5 0.76,-3.5 0.76,-2.5 ; 1.78,2.5 1.78,3.5 2.03,3.5 2.03,2.5 ; 3.05,-2.5 3.05,-3.5 3.3,-3.5 3.3,-2.5 ; 4.32,2.5 4.32,3.5 4.57,3.5 4.57,2.5 ; 5.59,-2.5 5.59,-3.5 5.84,-3.5 5.84,-2.5 ; 6.86,2.5 6.86,3.5 7.11,3.5 7.11,2.5 ; 8.13,-2.5 8.13,-3.5 8.38,-3.5 8.38,-2.5 ; 9.4,2.5 9.4,3.5 9.65,3.5 9.65,2.5 ; 10.67,-2.5 10.67,-3.5 10.92,-3.5 10.92,-2.5 ; 11.94,2.5 11.94,3.5 12.19,3.5 12.19,2.5 ; 13.21,-2.5 13.21,-3.5 13.46,-3.5 13.46,-2.5 ; 14.48,2.5 14.48,3.5 14.73,3.5 14.73,2.5 ; 15.75,-2.5 15.75,-3.5 16,-3.5 16,-2.5 ; -17.51,-2.5 -17.51,-2 -16.78,-2 -16.78,2 -17.51,2 -17.51,2.5 17.51,2.5 17.51,-2.5 -17.51,-2.5
Top Courtyard:
  lines w0.05: -0.5,0 0.5,0 ; 0,-0.5 0,0.5 ; -17.86,-3.95 17.86,-3.95 17.86,3.95 -17.86,3.95 -17.86,-3.95
3D body "690367282676.stp": height 5.8, standoff 0.05, extent -17.505,-3.498 17.515,3.499

## 690367290476 [mm] "MiniModule Connectors, PCB Type, Female, SMT, Vertical, 4p"
height 5.45
pads (4):
  rect 1.5x3 smd: 1(1.905,-2.25) 2(0.635,2.25) 3(-0.635,-2.25) 4(-1.905,2.25)
Top Overlay:
  lines w0.2: -2.95,2.65 -4.99,2.65 -4.99,-2.65 -1.7,-2.65 ; 1.7,2.65 4.99,2.65 4.99,-2.65 2.95,-2.65
Top Designator:
  text ".Designator" at -7.498,-0.5 h1.5
Top Component Outline:
  lines w0.1: -2.03,2.5 -2.03,3.5 -1.78,3.5 -1.78,2.5 ; -0.76,-2.5 -0.76,-3.5 -0.51,-3.5 -0.51,-2.5 ; 0.51,2.5 0.51,3.5 0.76,3.5 0.76,2.5 ; 1.78,-2.5 1.78,-3.5 2.03,-3.5 2.03,-2.5 ; -4.84,-2.5 -4.84,2.5 4.84,2.5 4.84,-2.5 -4.84,-2.5
Top 3D Body:
  lines w0.1: -2.03,2.5 -2.03,3.5 -1.78,3.5 -1.78,2.5 ; -0.76,-2.5 -0.76,-3.5 -0.51,-3.5 -0.51,-2.5 ; 0.51,2.5 0.51,3.5 0.76,3.5 0.76,2.5 ; 1.78,-2.5 1.78,-3.5 2.03,-3.5 2.03,-2.5 ; -4.84,-2.5 4.84,-2.5 4.84,2.5 -4.84,2.5 -4.84,-2.5
Top Courtyard:
  lines w0.05: -0.5,0 0.5,0 ; 0,-0.5 0,0.5 ; -5.19,-3.95 -5.19,3.95 5.19,3.95 5.19,-3.95 -5.19,-3.95
3D body "690367290476.stp": height 5.75, standoff 0, extent -4.835,-3.499 4.835,3.498

## 690367290676 [mm] "MiniModule Connectors, PCB Type, Female, SMT, Vertical, 6p"
height 5.45
pads (6):
  rect 1.5x3 smd: 1(3.175,-2.25) 2(1.905,2.25) 3(0.635,-2.25) 4(-0.635,2.25) 5(-1.905,-2.25) 6(-3.175,2.25)
Top Overlay:
  lines w0.2: -4.22,2.65 -6.26,2.65 -6.26,-2.65 -2.97,-2.65 ; 2.97,2.65 6.26,2.65 6.26,-2.65 4.22,-2.65
Top Designator:
  text ".Designator" at -7.498,-0.5 h1.5
Top Component Outline:
  lines w0.1: -3.3,2.5 -3.3,3.5 -3.05,3.5 -3.05,2.5 ; -2.03,-2.5 -2.03,-3.5 -1.78,-3.5 -1.78,-2.5 ; -0.76,2.5 -0.76,3.5 -0.51,3.5 -0.51,2.5 ; 0.51,-2.5 0.51,-3.5 0.76,-3.5 0.76,-2.5 ; 1.78,2.5 1.78,3.5 2.03,3.5 2.03,2.5 ; 3.05,-2.5 3.05,-3.5 3.3,-3.5 3.3,-2.5 ; -6.11,-2.5 -6.11,2.5 6.11,2.5 6.11,-2.5 -6.11,-2.5
Top 3D Body:
  lines w0.1: -3.3,2.5 -3.3,3.5 -3.05,3.5 -3.05,2.5 ; -2.03,-2.5 -2.03,-3.5 -1.78,-3.5 -1.78,-2.5 ; -0.76,2.5 -0.76,3.5 -0.51,3.5 -0.51,2.5 ; 0.51,-2.5 0.51,-3.5 0.76,-3.5 0.76,-2.5 ; 1.78,2.5 1.78,3.5 2.03,3.5 2.03,2.5 ; 3.05,-2.5 3.05,-3.5 3.3,-3.5 3.3,-2.5 ; -6.11,-2.5 6.11,-2.5 6.11,2.5 -6.11,2.5 -6.11,-2.5
Top Courtyard:
  lines w0.05: -0.5,0 0.5,0 ; 0,-0.5 0,0.5 ; -6.46,-3.95 -6.46,3.95 6.46,3.95 6.46,-3.95 -6.46,-3.95
3D body "690367290676.stp": height 5.75, standoff 0, extent -6.105,-3.499 6.105,3.498

## 690367290876 [mm] "MiniModule Connectors, PCB Type, Female, SMT, Vertical, 8p"
height 5.45
pads (8):
  rect 1.5x3 smd: 1(4.445,-2.25) 2(3.175,2.25) 3(1.905,-2.25) 4(0.635,2.25) 5(-0.635,-2.25) 6(-1.905,2.25) 7(-3.175,-2.25) 8(-4.445,2.25)
Top Overlay:
  lines w0.2: -5.49,2.65 -7.53,2.65 -7.53,-2.65 -4.24,-2.65 ; 4.24,2.65 7.53,2.65 7.53,-2.65 5.49,-2.65
Top Designator:
  text ".Designator" at -7.498,-0.5 h1.5
Top Component Outline:
  lines w0.1: -4.57,2.5 -4.57,3.5 -4.32,3.5 -4.32,2.5 ; -3.3,-2.5 -3.3,-3.5 -3.05,-3.5 -3.05,-2.5 ; -2.03,2.5 -2.03,3.5 -1.78,3.5 -1.78,2.5 ; -0.76,-2.5 -0.76,-3.5 -0.51,-3.5 -0.51,-2.5 ; 0.51,2.5 0.51,3.5 0.76,3.5 0.76,2.5 ; 1.78,-2.5 1.78,-3.5 2.03,-3.5 2.03,-2.5 ; 3.05,2.5 3.05,3.5 3.3,3.5 3.3,2.5 ; 4.32,-2.5 4.32,-3.5 4.57,-3.5 4.57,-2.5 ; -7.38,-2.5 7.38,-2.5 7.38,2.5 -7.38,2.5 -7.38,-2.5
Top 3D Body:
  lines w0.1: -4.57,2.5 -4.57,3.5 -4.32,3.5 -4.32,2.5 ; -3.3,-2.5 -3.3,-3.5 -3.05,-3.5 -3.05,-2.5 ; -2.03,2.5 -2.03,3.5 -1.78,3.5 -1.78,2.5 ; -0.76,-2.5 -0.76,-3.5 -0.51,-3.5 -0.51,-2.5 ; 0.51,2.5 0.51,3.5 0.76,3.5 0.76,2.5 ; 1.78,-2.5 1.78,-3.5 2.03,-3.5 2.03,-2.5 ; 3.05,2.5 3.05,3.5 3.3,3.5 3.3,2.5 ; 4.32,-2.5 4.32,-3.5 4.57,-3.5 4.57,-2.5 ; -7.38,-2.5 -7.38,2.5 7.38,2.5 7.38,-2.5 -7.38,-2.5
Top Courtyard:
  lines w0.05: -0.5,0 0.5,0 ; 0,-0.5 0,0.5 ; -7.73,-3.95 7.73,-3.95 7.73,3.95 -7.73,3.95 -7.73,-3.95
3D body "690367290876.stp": height 5.75, standoff 0, extent -7.375,-3.499 7.375,3.498

## 690367291076 [mm] "MiniModule Connectors, PCB Type, Female, SMT, Vertical, 10p"
height 5.45
pads (10):
  rect 1.5x3 smd: 1(5.715,-2.25) 2(4.445,2.25) 3(3.175,-2.25) 4(1.905,2.25) 5(0.635,-2.25) 6(-0.635,2.25) 7(-1.905,-2.25) 8(-3.175,2.25) 9(-4.445,-2.25) 10(-5.715,2.25)
Top Overlay:
  lines w0.2: -6.76,2.65 -8.8,2.65 -8.8,-2.65 -5.51,-2.65 ; 5.51,2.65 8.8,2.65 8.8,-2.65 6.76,-2.65
Top Designator:
  text ".Designator" at -7.498,-0.5 h1.5
Top Component Outline:
  lines w0.1: -5.84,2.5 -5.84,3.5 -5.59,3.5 -5.59,2.5 ; -4.57,-2.5 -4.57,-3.5 -4.32,-3.5 -4.32,-2.5 ; -3.3,2.5 -3.3,3.5 -3.05,3.5 -3.05,2.5 ; -2.03,-2.5 -2.03,-3.5 -1.78,-3.5 -1.78,-2.5 ; -0.76,2.5 -0.76,3.5 -0.51,3.5 -0.51,2.5 ; 0.51,-2.5 0.51,-3.5 0.76,-3.5 0.76,-2.5 ; 1.78,2.5 1.78,3.5 2.03,3.5 2.03,2.5 ; 3.05,-2.5 3.05,-3.5 3.3,-3.5 3.3,-2.5 ; 4.32,2.5 4.32,3.5 4.57,3.5 4.57,2.5 ; 5.59,-2.5 5.59,-3.5 5.84,-3.5 5.84,-2.5 ; -8.65,-2.5 -8.65,2.5 8.65,2.5 8.65,-2.5 -8.65,-2.5
Top 3D Body:
  lines w0.1: -5.84,2.5 -5.84,3.5 -5.59,3.5 -5.59,2.5 ; -4.57,-2.5 -4.57,-3.5 -4.32,-3.5 -4.32,-2.5 ; -3.3,2.5 -3.3,3.5 -3.05,3.5 -3.05,2.5 ; -2.03,-2.5 -2.03,-3.5 -1.78,-3.5 -1.78,-2.5 ; -0.76,2.5 -0.76,3.5 -0.51,3.5 -0.51,2.5 ; 0.51,-2.5 0.51,-3.5 0.76,-3.5 0.76,-2.5 ; 1.78,2.5 1.78,3.5 2.03,3.5 2.03,2.5 ; 3.05,-2.5 3.05,-3.5 3.3,-3.5 3.3,-2.5 ; 4.32,2.5 4.32,3.5 4.57,3.5 4.57,2.5 ; 5.59,-2.5 5.59,-3.5 5.84,-3.5 5.84,-2.5 ; -8.65,-2.5 8.65,-2.5 8.65,2.5 -8.65,2.5 -8.65,-2.5
Top Courtyard:
  lines w0.05: -0.5,0 0.5,0 ; 0,-0.5 0,0.5 ; -9,-3.95 -9,3.95 9,3.95 9,-3.95 -9,-3.95
3D body "690367291076.stp": height 5.75, standoff 0, extent -8.645,-3.499 8.645,3.498

## 690367291276 [mm] "MiniModule Connectors, PCB Type, Female, SMT, Vertical, 12p"
height 5.45
pads (12):
  rect 1.5x3 smd: 1(6.985,-2.25) 2(5.715,2.25) 3(4.445,-2.25) 4(3.175,2.25) 5(1.905,-2.25) 6(0.635,2.25) 7(-0.635,-2.25) 8(-1.905,2.25) 9(-3.175,-2.25) 10(-4.445,2.25) 11(-5.715,-2.25) 12(-6.985,2.25)
Top Overlay:
  lines w0.2: -8.03,2.65 -10.07,2.65 -10.07,-2.65 -6.78,-2.65 ; 6.78,2.65 10.07,2.65 10.07,-2.65 8.03,-2.65
Top Designator:
  text ".Designator" at -7.498,-0.5 h1.5
Top Component Outline:
  lines w0.1: -7.11,2.5 -7.11,3.5 -6.86,3.5 -6.86,2.5 ; -5.84,-2.5 -5.84,-3.5 -5.59,-3.5 -5.59,-2.5 ; -4.57,2.5 -4.57,3.5 -4.32,3.5 -4.32,2.5 ; -3.3,-2.5 -3.3,-3.5 -3.05,-3.5 -3.05,-2.5 ; -2.03,2.5 -2.03,3.5 -1.78,3.5 -1.78,2.5 ; -0.76,-2.5 -0.76,-3.5 -0.51,-3.5 -0.51,-2.5 ; 0.51,2.5 0.51,3.5 0.76,3.5 0.76,2.5 ; 1.78,-2.5 1.78,-3.5 2.03,-3.5 2.03,-2.5 ; 3.05,2.5 3.05,3.5 3.3,3.5 3.3,2.5 ; 4.32,-2.5 4.32,-3.5 4.57,-3.5 4.57,-2.5 ; 5.59,2.5 5.59,3.5 5.84,3.5 5.84,2.5 ; 6.86,-2.5 6.86,-3.5 7.11,-3.5 7.11,-2.5 ; -9.92,-2.5 9.92,-2.5 9.92,2.5 -9.92,2.5 -9.92,-2.5
Top 3D Body:
  lines w0.1: -7.11,2.5 -7.11,3.5 -6.86,3.5 -6.86,2.5 ; -5.84,-2.5 -5.84,-3.5 -5.59,-3.5 -5.59,-2.5 ; -4.57,2.5 -4.57,3.5 -4.32,3.5 -4.32,2.5 ; -3.3,-2.5 -3.3,-3.5 -3.05,-3.5 -3.05,-2.5 ; -2.03,2.5 -2.03,3.5 -1.78,3.5 -1.78,2.5 ; -0.76,-2.5 -0.76,-3.5 -0.51,-3.5 -0.51,-2.5 ; 0.51,2.5 0.51,3.5 0.76,3.5 0.76,2.5 ; 1.78,-2.5 1.78,-3.5 2.03,-3.5 2.03,-2.5 ; 3.05,2.5 3.05,3.5 3.3,3.5 3.3,2.5 ; 4.32,-2.5 4.32,-3.5 4.57,-3.5 4.57,-2.5 ; 5.59,2.5 5.59,3.5 5.84,3.5 5.84,2.5 ; 6.86,-2.5 6.86,-3.5 7.11,-3.5 7.11,-2.5 ; -9.92,-2.5 -9.92,2.5 9.92,2.5 9.92,-2.5 -9.92,-2.5
Top Courtyard:
  lines w0.05: -0.5,0 0.5,0 ; 0,-0.5 0,0.5 ; -10.27,-3.95 10.27,-3.95 10.27,3.95 -10.27,3.95 -10.27,-3.95
3D body "690367291276.stp": height 5.75, standoff 0, extent -9.915,-3.499 9.915,3.498

## 690367291476 [mm] "MiniModule Connectors, PCB Type, Female, SMT, Vertical, 14p"
height 5.45
pads (14):
  rect 1.5x3 smd: 1(8.255,-2.25) 2(6.985,2.25) 3(5.715,-2.25) 4(4.445,2.25) 5(3.175,-2.25) 6(1.905,2.25) 7(0.635,-2.25) 8(-0.635,2.25) 9(-1.905,-2.25) 10(-3.175,2.25) 11(-4.445,-2.25) 12(-5.715,2.25) 13(-6.985,-2.25) 14(-8.255,2.25)
Top Overlay:
  lines w0.2: -9.3,2.65 -11.34,2.65 -11.34,-2.65 -8.05,-2.65 ; 8.05,2.65 11.34,2.65 11.34,-2.65 9.3,-2.65
Top Designator:
  text ".Designator" at -7.498,-0.5 h1.5
Top Component Outline:
  lines w0.1: -8.38,2.5 -8.38,3.5 -8.13,3.5 -8.13,2.5 ; -7.11,-2.5 -7.11,-3.5 -6.86,-3.5 -6.86,-2.5 ; -5.84,2.5 -5.84,3.5 -5.59,3.5 -5.59,2.5 ; -4.57,-2.5 -4.57,-3.5 -4.32,-3.5 -4.32,-2.5 ; -3.3,2.5 -3.3,3.5 -3.05,3.5 -3.05,2.5 ; -2.03,-2.5 -2.03,-3.5 -1.78,-3.5 -1.78,-2.5 ; -0.76,2.5 -0.76,3.5 -0.51,3.5 -0.51,2.5 ; 0.51,-2.5 0.51,-3.5 0.76,-3.5 0.76,-2.5 ; 1.78,2.5 1.78,3.5 2.03,3.5 2.03,2.5 ; 3.05,-2.5 3.05,-3.5 3.3,-3.5 3.3,-2.5 ; 4.32,2.5 4.32,3.5 4.57,3.5 4.57,2.5 ; 5.59,-2.5 5.59,-3.5 5.84,-3.5 5.84,-2.5 ; 6.86,2.5 6.86,3.5 7.11,3.5 7.11,2.5 ; 8.13,-2.5 8.13,-3.5 8.38,-3.5 8.38,-2.5 ; -11.19,-2.5 -11.19,2.5 11.19,2.5 11.19,-2.5 -11.19,-2.5
Top 3D Body:
  lines w0.1: -8.38,2.5 -8.38,3.5 -8.13,3.5 -8.13,2.5 ; -7.11,-2.5 -7.11,-3.5 -6.86,-3.5 -6.86,-2.5 ; -5.84,2.5 -5.84,3.5 -5.59,3.5 -5.59,2.5 ; -4.57,-2.5 -4.57,-3.5 -4.32,-3.5 -4.32,-2.5 ; -3.3,2.5 -3.3,3.5 -3.05,3.5 -3.05,2.5 ; -2.03,-2.5 -2.03,-3.5 -1.78,-3.5 -1.78,-2.5 ; -0.76,2.5 -0.76,3.5 -0.51,3.5 -0.51,2.5 ; 0.51,-2.5 0.51,-3.5 0.76,-3.5 0.76,-2.5 ; 1.78,2.5 1.78,3.5 2.03,3.5 2.03,2.5 ; 3.05,-2.5 3.05,-3.5 3.3,-3.5 3.3,-2.5 ; 4.32,2.5 4.32,3.5 4.57,3.5 4.57,2.5 ; 5.59,-2.5 5.59,-3.5 5.84,-3.5 5.84,-2.5 ; 6.86,2.5 6.86,3.5 7.11,3.5 7.11,2.5 ; 8.13,-2.5 8.13,-3.5 8.38,-3.5 8.38,-2.5 ; -11.19,-2.5 11.19,-2.5 11.19,2.5 -11.19,2.5 -11.19,-2.5
Top Courtyard:
  lines w0.05: -0.5,0 0.5,0 ; 0,-0.5 0,0.5 ; -11.54,-3.95 -11.54,3.95 11.54,3.95 11.54,-3.95 -11.54,-3.95
3D body "690367291476.stp": height 5.75, standoff 0, extent -11.185,-3.499 11.185,3.498

## 690367291676 [mm] "MiniModule Connectors, PCB Type, Female, SMT, Vertical, 16p"
height 5.45
pads (16):
  rect 1.5x3 smd: 1(9.525,-2.25) 2(8.255,2.25) 3(6.985,-2.25) 4(5.715,2.25) 5(4.445,-2.25) 6(3.175,2.25) 7(1.905,-2.25) 8(0.635,2.25) 9(-0.635,-2.25) 10(-1.905,2.25) 11(-3.175,-2.25) 12(-4.445,2.25) 13(-5.715,-2.25) 14(-6.985,2.25) 15(-8.255,-2.25) 16(-9.525,2.25)
Top Overlay:
  lines w0.2: -10.57,2.65 -12.61,2.65 -12.61,-2.65 -9.32,-2.65 ; 9.32,2.65 12.61,2.65 12.61,-2.65 10.57,-2.65
Top Designator:
  text ".Designator" at -7.498,-0.5 h1.5
Top Component Outline:
  lines w0.1: -9.65,2.5 -9.65,3.5 -9.4,3.5 -9.4,2.5 ; -8.38,-2.5 -8.38,-3.5 -8.13,-3.5 -8.13,-2.5 ; -7.11,2.5 -7.11,3.5 -6.86,3.5 -6.86,2.5 ; -5.84,-2.5 -5.84,-3.5 -5.59,-3.5 -5.59,-2.5 ; -4.57,2.5 -4.57,3.5 -4.32,3.5 -4.32,2.5 ; -3.3,-2.5 -3.3,-3.5 -3.05,-3.5 -3.05,-2.5 ; -2.03,2.5 -2.03,3.5 -1.78,3.5 -1.78,2.5 ; -0.76,-2.5 -0.76,-3.5 -0.51,-3.5 -0.51,-2.5 ; 0.51,2.5 0.51,3.5 0.76,3.5 0.76,2.5 ; 1.78,-2.5 1.78,-3.5 2.03,-3.5 2.03,-2.5 ; 3.05,2.5 3.05,3.5 3.3,3.5 3.3,2.5 ; 4.32,-2.5 4.32,-3.5 4.57,-3.5 4.57,-2.5 ; 5.59,2.5 5.59,3.5 5.84,3.5 5.84,2.5 ; 6.86,-2.5 6.86,-3.5 7.11,-3.5 7.11,-2.5 ; 8.13,2.5 8.13,3.5 8.38,3.5 8.38,2.5 ; 9.4,-2.5 9.4,-3.5 9.65,-3.5 9.65,-2.5 ; -12.46,-2.5 12.46,-2.5 12.46,2.5 -12.46,2.5 -12.46,-2.5
Top 3D Body:
  lines w0.1: -9.65,2.5 -9.65,3.5 -9.4,3.5 -9.4,2.5 ; -8.38,-2.5 -8.38,-3.5 -8.13,-3.5 -8.13,-2.5 ; -7.11,2.5 -7.11,3.5 -6.86,3.5 -6.86,2.5 ; -5.84,-2.5 -5.84,-3.5 -5.59,-3.5 -5.59,-2.5 ; -4.57,2.5 -4.57,3.5 -4.32,3.5 -4.32,2.5 ; -3.3,-2.5 -3.3,-3.5 -3.05,-3.5 -3.05,-2.5 ; -2.03,2.5 -2.03,3.5 -1.78,3.5 -1.78,2.5 ; -0.76,-2.5 -0.76,-3.5 -0.51,-3.5 -0.51,-2.5 ; 0.51,2.5 0.51,3.5 0.76,3.5 0.76,2.5 ; 1.78,-2.5 1.78,-3.5 2.03,-3.5 2.03,-2.5 ; 3.05,2.5 3.05,3.5 3.3,3.5 3.3,2.5 ; 4.32,-2.5 4.32,-3.5 4.57,-3.5 4.57,-2.5 ; 5.59,2.5 5.59,3.5 5.84,3.5 5.84,2.5 ; 6.86,-2.5 6.86,-3.5 7.11,-3.5 7.11,-2.5 ; 8.13,2.5 8.13,3.5 8.38,3.5 8.38,2.5 ; 9.4,-2.5 9.4,-3.5 9.65,-3.5 9.65,-2.5 ; -12.46,-2.5 -12.46,2.5 12.46,2.5 12.46,-2.5 -12.46,-2.5
Top Courtyard:
  lines w0.05: -0.5,0 0.5,0 ; 0,-0.5 0,0.5 ; -12.81,-3.95 12.81,-3.95 12.81,3.95 -12.81,3.95 -12.81,-3.95
3D body "690367291676.stp": height 5.75, standoff 0, extent -12.455,-3.499 12.455,3.498

## 690367291876 [mm] "MiniModule Connectors, PCB Type, Female, SMT, Vertical, 18p"
height 5.45
pads (18):
  rect 1.5x3 smd: 1(10.795,-2.25) 2(9.525,2.25) 3(8.255,-2.25) 4(6.985,2.25) 5(5.715,-2.25) 6(4.445,2.25) 7(3.175,-2.25) 8(1.905,2.25) 9(0.635,-2.25) 10(-0.635,2.25) 11(-1.905,-2.25) 12(-3.175,2.25) 13(-4.445,-2.25) 14(-5.715,2.25) 15(-6.985,-2.25) 16(-8.255,2.25) 17(-9.525,-2.25) 18(-10.795,2.25)
Top Overlay:
  lines w0.2: -11.84,2.65 -13.88,2.65 -13.88,-2.65 -10.59,-2.65 ; 10.59,2.65 13.88,2.65 13.88,-2.65 11.84,-2.65
Top Designator:
  text ".Designator" at -7.498,-0.5 h1.5
Top Component Outline:
  lines w0.1: -10.92,2.5 -10.92,3.5 -10.67,3.5 -10.67,2.5 ; -9.65,-2.5 -9.65,-3.5 -9.4,-3.5 -9.4,-2.5 ; -8.38,2.5 -8.38,3.5 -8.13,3.5 -8.13,2.5 ; -7.11,-2.5 -7.11,-3.5 -6.86,-3.5 -6.86,-2.5 ; -5.84,2.5 -5.84,3.5 -5.59,3.5 -5.59,2.5 ; -4.57,-2.5 -4.57,-3.5 -4.32,-3.5 -4.32,-2.5 ; -3.3,2.5 -3.3,3.5 -3.05,3.5 -3.05,2.5 ; -2.03,-2.5 -2.03,-3.5 -1.78,-3.5 -1.78,-2.5 ; -0.76,2.5 -0.76,3.5 -0.51,3.5 -0.51,2.5 ; 0.51,-2.5 0.51,-3.5 0.76,-3.5 0.76,-2.5 ; 1.78,2.5 1.78,3.5 2.03,3.5 2.03,2.5 ; 3.05,-2.5 3.05,-3.5 3.3,-3.5 3.3,-2.5 ; 4.32,2.5 4.32,3.5 4.57,3.5 4.57,2.5 ; 5.59,-2.5 5.59,-3.5 5.84,-3.5 5.84,-2.5 ; 6.86,2.5 6.86,3.5 7.11,3.5 7.11,2.5 ; 8.13,-2.5 8.13,-3.5 8.38,-3.5 8.38,-2.5 ; 9.4,2.5 9.4,3.5 9.65,3.5 9.65,2.5 ; 10.67,-2.5 10.67,-3.5 10.92,-3.5 10.92,-2.5 ; -13.73,-2.5 13.73,-2.5 13.73,2.5 -13.73,2.5 -13.73,-2.5
Top 3D Body:
  lines w0.1: -10.92,2.5 -10.92,3.5 -10.67,3.5 -10.67,2.5 ; -9.65,-2.5 -9.65,-3.5 -9.4,-3.5 -9.4,-2.5 ; -8.38,2.5 -8.38,3.5 -8.13,3.5 -8.13,2.5 ; -7.11,-2.5 -7.11,-3.5 -6.86,-3.5 -6.86,-2.5 ; -5.84,2.5 -5.84,3.5 -5.59,3.5 -5.59,2.5 ; -4.57,-2.5 -4.57,-3.5 -4.32,-3.5 -4.32,-2.5 ; -3.3,2.5 -3.3,3.5 -3.05,3.5 -3.05,2.5 ; -2.03,-2.5 -2.03,-3.5 -1.78,-3.5 -1.78,-2.5 ; -0.76,2.5 -0.76,3.5 -0.51,3.5 -0.51,2.5 ; 0.51,-2.5 0.51,-3.5 0.76,-3.5 0.76,-2.5 ; 1.78,2.5 1.78,3.5 2.03,3.5 2.03,2.5 ; 3.05,-2.5 3.05,-3.5 3.3,-3.5 3.3,-2.5 ; 4.32,2.5 4.32,3.5 4.57,3.5 4.57,2.5 ; 5.59,-2.5 5.59,-3.5 5.84,-3.5 5.84,-2.5 ; 6.86,2.5 6.86,3.5 7.11,3.5 7.11,2.5 ; 8.13,-2.5 8.13,-3.5 8.38,-3.5 8.38,-2.5 ; 9.4,2.5 9.4,3.5 9.65,3.5 9.65,2.5 ; 10.67,-2.5 10.67,-3.5 10.92,-3.5 10.92,-2.5 ; -13.73,-2.5 -13.73,2.5 13.73,2.5 13.73,-2.5 -13.73,-2.5
Top Courtyard:
  lines w0.05: -0.5,0 0.5,0 ; 0,-0.5 0,0.5 ; -14.08,-3.95 14.08,-3.95 14.08,3.95 -14.08,3.95 -14.08,-3.95
3D body "690367291876.stp": height 5.75, standoff 0, extent -13.725,-3.499 13.725,3.498